# Altium schematic symbol library Vertical Plastic Modular Jack.SchLib: 10 symbols
Pins are listed as number, name and electrical type; pins without a type are passive.

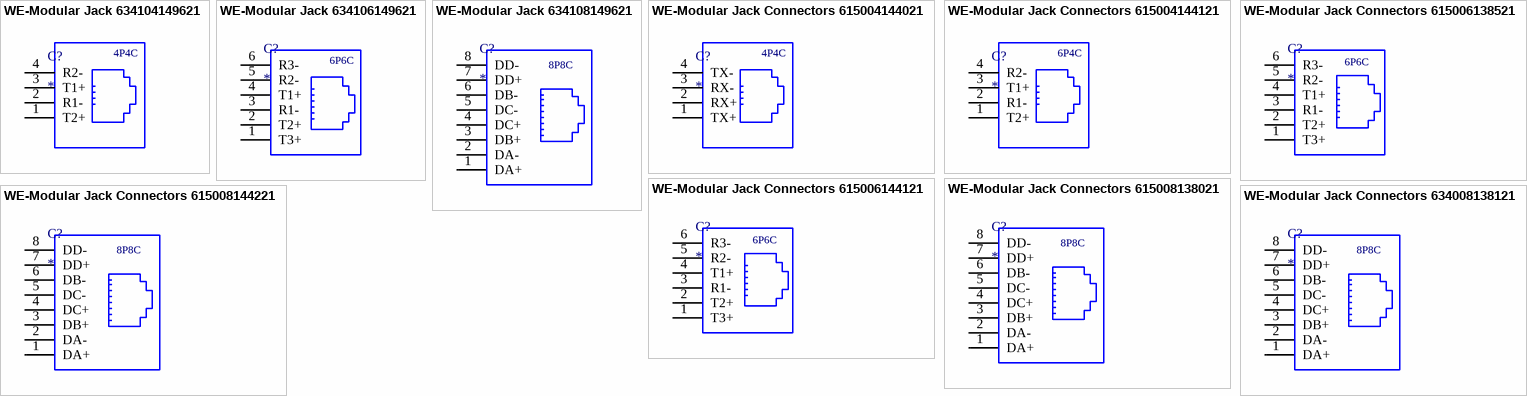
[diagram p0: symbols WE-Modular Jack 634104149621 to WE-Modular Jack Connectors 634008138121]

## WE-Modular Jack 634104149621
designator C?
WR-MJ_Modular Jack_Top Entry_4P4C; Manufacturer: Würth Elektronik eiSos GmbH; partNo: 634104149621; ComponentLink1 Description: Manufacturer; ComponentLink2 Description: Datasheet; NoPins: 4; ComponentLink1URL: http://www.we-online.de; ComponentLink2URL: http://katalog.we-online.de/em/datasheet/634104149621.pdf; Created by: Karrer Zheng; Created Date: 10/20/2014
footprint 634104149621
pins: 1 T2+, 2 R1-, 3 T1+, 4 R2-
text: 4P4C

## WE-Modular Jack 634106149621
designator C?
WR-MJ_Modular Jack_Top Entry_6P6C; Manufacturer: Würth Elektronik eiSos GmbH; partNo: 634106149621; ComponentLink1 Description: Manufacturer; ComponentLink2 Description: Datasheet; NoPins: 6; ComponentLink1URL: http://www.we-online.de; ComponentLink2URL: http://katalog.we-online.de/em/datasheet/634106149621.pdf; Created by: Karrer Zheng; Created Date: 10/20/2014
footprint 634106149621
pins: 1 T3+, 2 T2+, 3 R1-, 4 T1+, 5 R2-, 6 R3-
text: 6P6C

## WE-Modular Jack 634108149621
designator C?
WR-MJ_Modular Jack_Top Entry_8P8C; Manufacturer: Würth Elektronik eiSos GmbH; partNo: 634108149621; ComponentLink1 Description: Manufacturer; ComponentLink2 Description: Datasheet; NoPins: 8; ComponentLink1URL: http://www.we-online.de; ComponentLink2URL: http://katalog.we-online.de/em/datasheet/634108149621.pdf; Created by: Karrer Zheng; Created Date: 10/20/2014
footprint 634108149621
pins: 1 DA+, 2 DA-, 3 DB+, 4 DC+, 5 DC-, 6 DB-, 7 DD+, 8 DD-
text: 8P8C

## WE-Modular Jack Connectors 615004144021
designator C?
WR-COM Modular Jack Vertical Plastic 1x1 TH    4P4C; Manufacturer: Würth Elektronik eiSos GmbH; partNo: 615004144021; ComponentLink1 Description: Manufacturer; ComponentLink2 Description: Datasheet; NoPins: 4; ComponentLink1URL: http://www.we-online.de; ComponentLink2URL: http://katalog.we-online.de/em/datasheet/615004144021.pdf; Created by: Karrer Zheng; Created Date: 10/23/2014
footprint 615004144021 (Vertical Plastic 1x1 TH    4P4C)
pins: 1 TX+, 2 RX+, 3 RX-, 4 TX-
text: 4P4C

## WE-Modular Jack Connectors 615004144121
designator C?
WR-COM Modular Jack Vertical Plastic 1x1 TH    6P4C; Manufacturer: Würth Elektronik eiSos GmbH; partNo: 615004144121; ComponentLink1 Description: Manufacturer; ComponentLink2 Description: Datasheet; NoPins: 4; ComponentLink1URL: http://www.we-online.de; ComponentLink2URL: http://katalog.we-online.de/em/datasheet/615004144121.pdf; Created by: Karrer Zheng; Created Date: 10/24/2014
footprint 615004144121
pins: 1 T2+, 2 R1-, 3 T1+, 4 R2-
text: 6P4C

## WE-Modular Jack Connectors 615006138521
designator C?
WR-COM Modular Jack 6P6C vertical with ears; Manufacturer: Würth Elektronik eiSos GmbH; partNo: 615006138521; ComponentLink1 Description: Manufacturer; ComponentLink2 Description: Datasheet; NoPins: 6; ComponentLink1URL: http://www.we-online.de; ComponentLink2URL: http://katalog.we-online.de/em/datasheet/615006138521.pdf; Created by: Karrer Zheng; Created Date: 10/22/2014
footprint 615006138521
pins: 1 T3+, 2 T2+, 3 R1-, 4 T1+, 5 R2-, 6 R3-
text: 6P6C

## WE-Modular Jack Connectors 615006144121
designator C?
WR-COM Modular Jack Vertical Plastic 1x1 TH    6P6C; Manufacturer: Würth Elektronik eiSos GmbH; partNo: 615006144121; ComponentLink1 Description: Manufacturer; ComponentLink2 Description: Datasheet; NoPins: 6; ComponentLink1URL: http://www.we-online.de; ComponentLink2URL: http://katalog.we-online.de/em/datasheet/615006144121.pdf; Created by: Karrer Zheng; Created Date: 10/25/2014
footprint 615006144121
pins: 1 T3+, 2 T2+, 3 R1-, 4 T1+, 5 R2-, 6 R3-
text: 6P6C

## WE-Modular Jack Connectors 615008138021
designator C?
WR-COM Modular Jack RJ45 Vertical; Manufacturer: Würth Elektronik eiSos GmbH; partNo: 615008138021; ComponentLink1 Description: Manufacturer; ComponentLink2 Description: Datasheet; NoPins: 8; ComponentLink1URL: http://www.we-online.de; ComponentLink2URL: http://katalog.we-online.de/em/datasheet/615008138021.pdf; Created by: Karrer Zheng; Created Date: 10/27/2014
footprint 615008138021
pins: 1 DA+, 2 DA-, 3 DB+, 4 DC+, 5 DC-, 6 DB-, 7 DD+, 8 DD-
text: 8P8C

## WE-Modular Jack Connectors 615008144221
designator C?
WR-COM Modular Jack Vertical Plastic 1x1 TH    8P8C; Manufacturer: Würth Elektronik eiSos GmbH; partNo: 615008144221; ComponentLink1 Description: Manufacturer; ComponentLink2 Description: Datasheet; NoPins: 8; ComponentLink1URL: http://www.we-online.de; ComponentLink2URL: http://katalog.we-online.de/em/datasheet/615008144221.pdf; Created by: Karrer Zheng; Created Date: 10/26/2014
footprint 615008144221
pins: 1 DA+, 2 DA-, 3 DB+, 4 DC+, 5 DC-, 6 DB-, 7 DD+, 8 DD-
text: 8P8C

## WE-Modular Jack Connectors 634008138121
designator C?
WR-COM Modular Jack RJ45 Vertical SMT; Manufacturer: Würth Elektronik eiSos GmbH; partNo: 634008138121; ComponentLink1 Description: Manufacturer; ComponentLink2 Description: Datasheet; NoPins: 8; ComponentLink1URL: http://www.we-online.de; ComponentLink2URL: http://katalog.we-online.de/em/datasheet/634008138121.pdf; Created by: Karrer Zheng; Created Date: 10/28/2014
footprint 634008138121
pins: 1 DA+, 2 DA-, 3 DB+, 4 DC+, 5 DC-, 6 DB-, 7 DD+, 8 DD-
text: 8P8C